# EAGLE library part SCP1000-D11 (library vti)
Absolute pressure sensor Source: http://akizukidenshi.com/download/scp1000_product_family_specification_rev_0.08.pdf
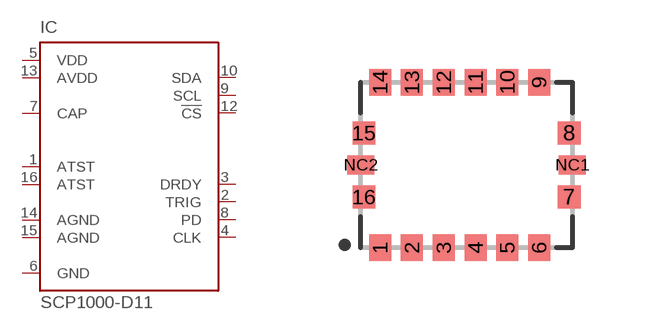
[diagram p1: symbol with the pads of QFN20_3,5X4,5; footprint QFN20_3,5X4,5]

Designator prefix IC

## SCP1000-D11  [QFN20_3,5X4,5]
1  ATST  in
2  TRIG  in
3  DRDY  out
4  CLK  in
5  VDD  pwr
6  GND  pwr
7  CAP  out
8  PD  in
9  SCL  in
10  SDA  in
12  !CS!  in
13  AVDD  pwr
14  AGND  pwr
15  AGND  pwr
16  ATST  in

## Footprint QFN20_3,5X4,5 (pad centres in mm)
smd 0.55 x 0.67: 1 -2.11,-2.07; 2 -1.315,-2.07; 3 -0.52,-2.07; 4 0.275,-2.07; 5 1.07,-2.07; 6 1.865,-2.07; 9 1.865,2.07; 10 1.07,2.07; 11 0.275,2.07; 12 -0.52,2.07; 13 -1.315,2.07; 14 -2.11,2.07
smd 0.57 x 0.57: 7 2.615,-0.8; 8 2.615,0.8; 15 -2.515,0.8; 16 -2.515,-0.8
smd 0.67 x 0.47: NC1 2.695,0; NC2 -2.595,0